# EAGLE library part TPS3895ADRYR (library circuit_tree)
IC
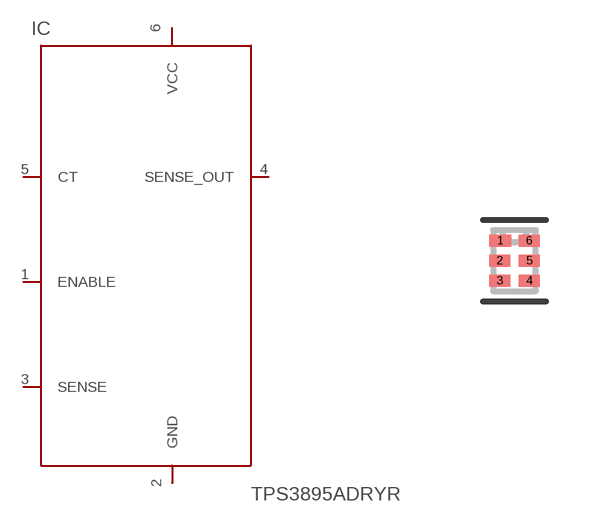
[diagram p2: symbol with the pads of SON-6; footprint SON-6]

Designator prefix IC

## TPS3895ADRYR  [SON-6]
1  ENABLE  pas
2  GND  pas
3  SENSE  pas
4  SENSE_OUT  pas
5  CT  pas
6  VCC  pas

## Footprint SON-6 (pad centres in mm)
smd 0.55 x 0.3: 1 -0.355,0.5
smd 0.52 x 0.3: 2 -0.37,0; 3 -0.37,-0.5; 4 0.37,-0.5; 5 0.37,0; 6 0.37,0.5